# Altium integrated library NSC Legacy.IntLib: 687 symbols (part 12 of 17)
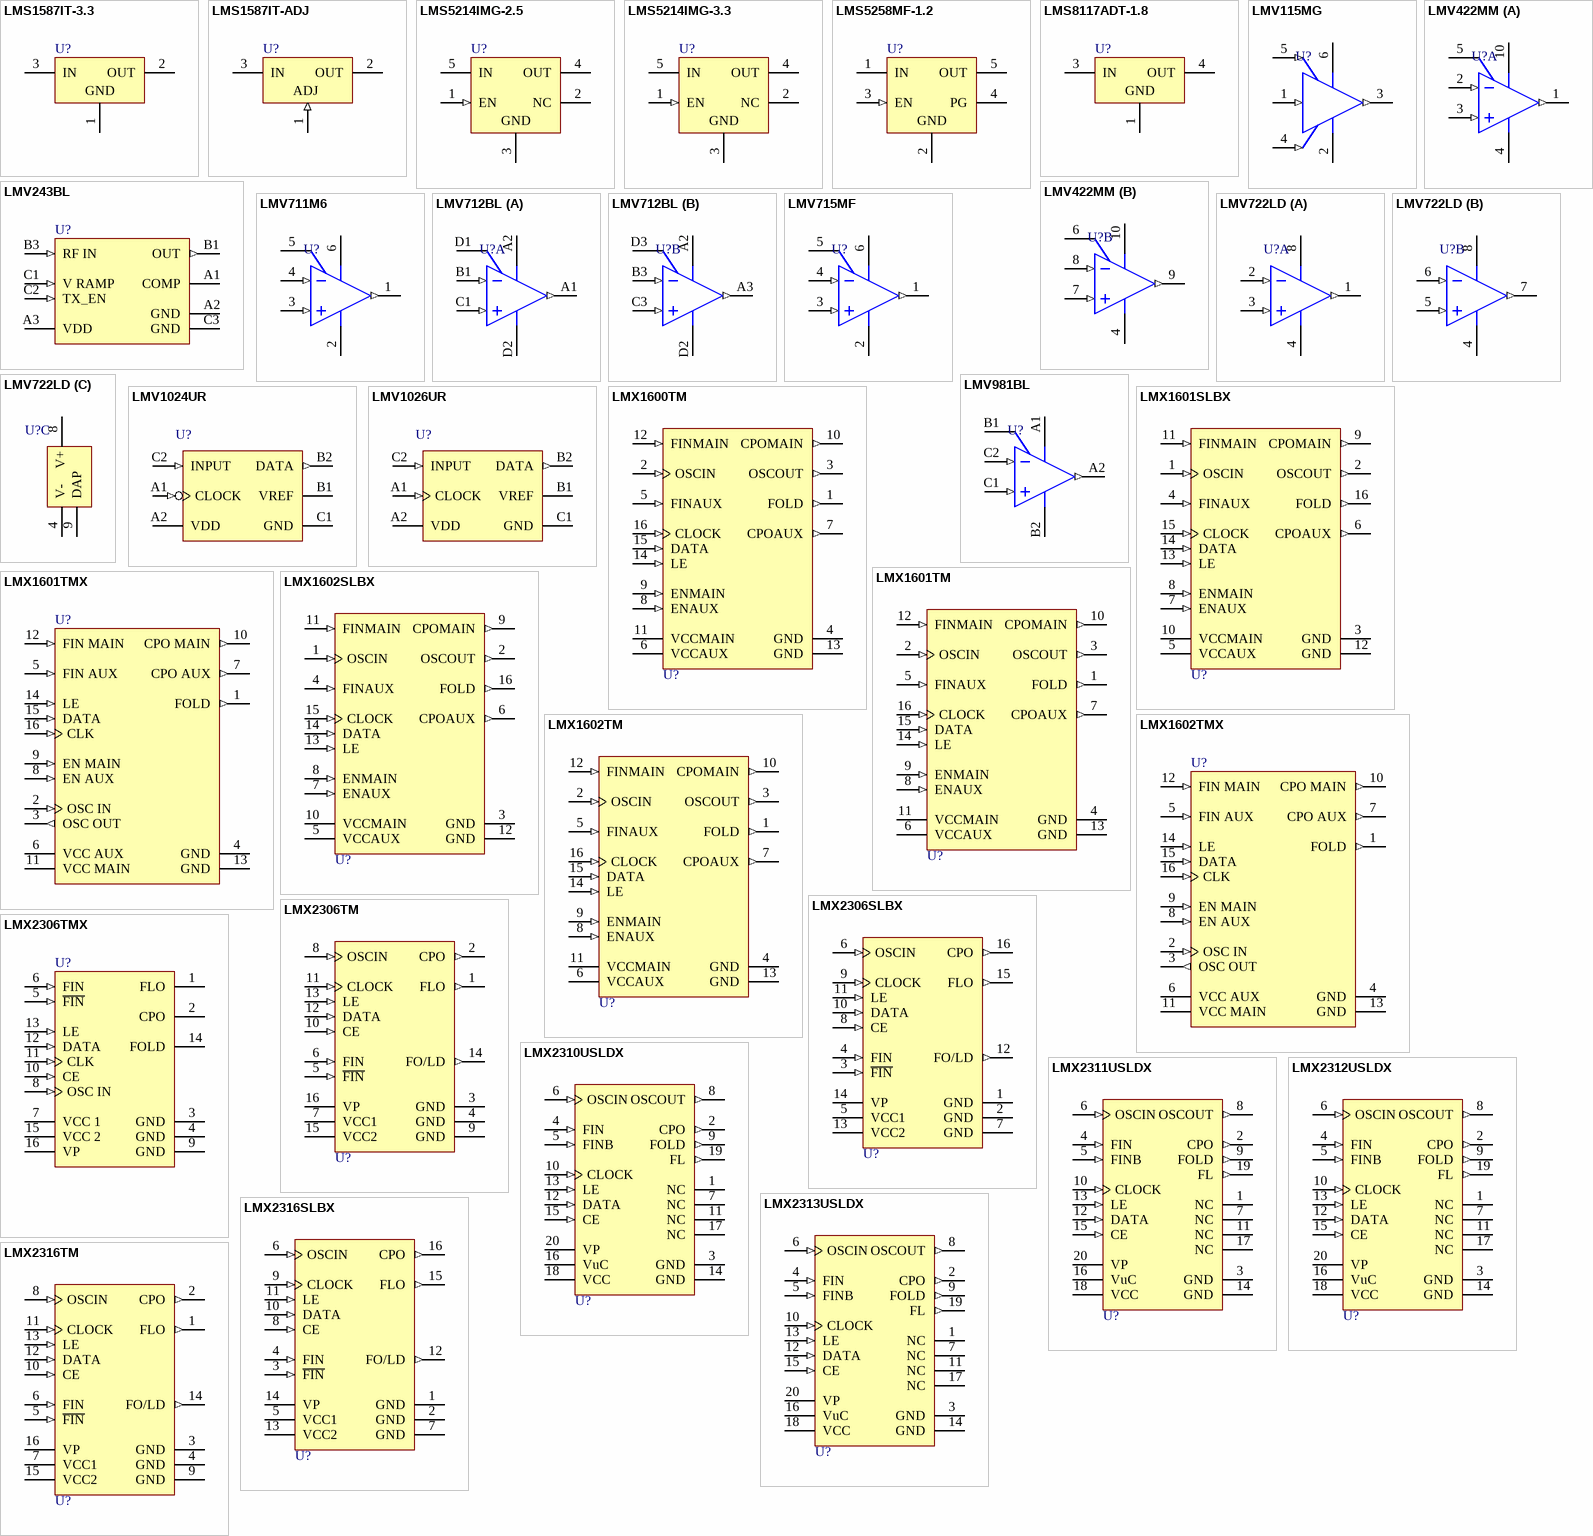
[diagram p35: symbols LMS1587IT-3.3 to LMX2316TM]

## LMX1602SLBX
designator U?
1.1 GHz/1.1 GHz PLLatinum Low Cost Dual Frequency Synthesizer, 16-pin CSP; PartNumber: LMX1602SLBX; Manufacturer: National Semiconductor; PackageTopMarking: NSXYTT*X1602*SLBDD; CompType: Interface IC; Published: 4-Dec-2008; DatasheetVersion: Jun-2005; PackageVersion: revB, Sep-1998; PackageReference: SLB16A; Publisher: Altium Limited; PackageDescription: CSP, Plastic, Laminated, 3.5 x 3.5 x 1.0mm Body, 16 Lead, 0.5mm Pitch; Supplier 1: Digi-Key; Supplier Part Number 1: LMX1602SLBX-ND; RoHS: O; PinCount: 16; Code_JEDEC: MO-208-CCE; ComponentLink1Description: LMX1602 Datasheet; ComponentLink1URL: http://www.national.com/ds/LM/LMX1602.pdf; ComponentLink2Description: LMX1602 Web Page; ComponentLink2URL: http://www.national.com/pf/LM/LMX1602.html; ComponentLink3Description: SLB16A Package Page; ComponentLink3URL: http://www.national.com/packaging/folders/slb16a.html
footprint SLB16A (PQFN, 16-Leads, Body 3.5x3.5mm, Pitch 0.5mm, NSC Recommended)
pins: 1 OSCIN (in), 2 OSCOUT (out), 3 GND (power), 4 FINAUX (in), 5 VCCAUX (power), 6 CPOAUX (out), 7 ENAUX (in), 8 ENMAIN (in), 9 CPOMAIN (out), 10 VCCMAIN (power), 11 FINMAIN (in), 12 GND (power), 13 LE (in), 14 DATA (in), 15 CLOCK (in), 16 FOLD (out)

## LMX1602TM
designator U?
1.1 GHz/1.1 GHz PLLatinum Low Cost Dual Frequency Synthesizer, 16-pin TSSOP; PartNumber: LMX1602TM; Manufacturer: National Semiconductor; PackageTopMarking: NSUZXYTT*LMX1602*TMDD; CompType: Interface IC; Published: 4-Dec-2008; DatasheetVersion: Jun-2005; PackageVersion: revD, Jun-2003; PackageReference: MTC16; Publisher: Altium Limited; PackageDescription: Molded TSSOP, Jedec, 5 x 4.4 x 0.9mm Body, 16 Lead, 0.65mm Pitch; RoHS: Y; PinCount: 16; Code_JEDEC: MO-153-AB; ComponentLink1Description: LMX1602 Datasheet; ComponentLink1URL: http://www.national.com/ds/LM/LMX1602.pdf; ComponentLink2Description: LMX1602 Web Page; ComponentLink2URL: http://www.national.com/pf/LM/LMX1602.html; ComponentLink3Description: MTC16 Package Page; ComponentLink3URL: http://www.national.com/packaging/folders/mtc16.html
footprint MTC16_N (TSOP, 16-Leads, Body 5x4.4mm, Pitch 0.65mm, IPC Medium Density)
footprint MTC16_L (TSOP, 16-Leads, Body 5x4.4mm, Pitch 0.65mm, IPC High Density)
footprint MTC16_M (TSOP, 16-Leads, Body 5x4.4mm, Pitch 0.65mm, IPC Low Density)
pins: 1 FOLD (out), 2 OSCIN (in), 3 OSCOUT (out), 4 GND (power), 5 FINAUX (in), 6 VCCAUX (power), 7 CPOAUX (out), 8 ENAUX (in), 9 ENMAIN (in), 10 CPOMAIN (out), 11 VCCMAIN (power), 12 FINMAIN (in), 13 GND (power), 14 LE (in), 15 DATA (in), 16 CLOCK (in)

## LMX1602TMX
designator U?
1.1 GHz/1.1 GHz PLLatinum Low Cost Dual Frequency Synthesizer, 16-pin TSSOP; PartNumber: LMX1602TMX; Manufacturer: National Semiconductor; PackageTopMarking: NSUZXYTT*LMX1602*TMDD; CompType: Analog IC; Published: 4-Dec-2008; DatasheetVersion: Jun-2005; PackageVersion: revD, Jun-2003; PackageReference: MTC16; Publisher: Altium Limited; PackageDescription: Molded TSSOP, Jedec, 5 x 4.4 x 0.9mm Body, 16 Lead, 0.65mm Pitch; PinCount: 16; Code_JEDEC: MO-153-AB; ComponentLink1Description: LMX1602 Datasheet; ComponentLink1URL: http://www.national.com/ds/LM/LMX1602.pdf; ComponentLink2Description: LMX1602 Web Page; ComponentLink2URL: http://www.national.com/pf/LM/LMX1602.html; ComponentLink3Description: MTC16 package page; ComponentLink3URL: http://www.national.com/packaging/folders/mtc16.html
footprint MTC16_N (TSOP, 16-Leads, Body 5x4.4mm, Pitch 0.65mm, IPC Medium Density)
footprint MTC16_L (TSOP, 16-Leads, Body 5x4.4mm, Pitch 0.65mm, IPC High Density)
footprint MTC16_M (TSOP, 16-Leads, Body 5x4.4mm, Pitch 0.65mm, IPC Low Density)
pins: 1 FOLD (out), 2 OSC IN (in), 3 OSC OUT (out), 4 GND (power), 5 FIN AUX (in), 6 VCC AUX (power), 7 CPO AUX (out), 8 EN AUX (in), 9 EN MAIN (in), 10 CPO MAIN (out), 11 VCC MAIN (power), 12 FIN MAIN (in), 13 GND (power), 14 LE (in), 15 DATA (in), 16 CLK (in)

## LMX2306SLBX
designator U?
550 MHz PLLatinum Low Power Frequency Synthesizer for RF Personal Communications, 16-pin CSP; PartNumber: LMX2306SLBX; Manufacturer: National Semiconductor; PackageTopMarking: NSXYTT*X2306*SLBDD; PowerWise: N; CompType: Interface IC; Published: 4-Dec-2008; DatasheetVersion: Mar-2004; PackageVersion: revB, Sep-1998; PackageReference: SLB16A; Publisher: Altium Limited; PackageDescription: CSP, Plastic, Laminated, 3.5 x 3.5 x 1.0mm Body, 16 Lead, 0.5mm Pitch; Supplier 1: Farnell; Supplier Part Number 1: 4799975; RoHS: O; PinCount: 16; Code_JEDEC: MO-208-CCE; ComponentLink1Description: LMX2306 Datasheet; ComponentLink1URL: http://www.national.com/ds/LM/LMX2306.pdf; ComponentLink2Description: LMX2306 Web Page; ComponentLink2URL: http://www.national.com/pf/LM/LMX2306.html; ComponentLink3Description: SLB16A Package Page; ComponentLink3URL: http://www.national.com/packaging/folders/slb16a.html
footprint SLB16A (PQFN, 16-Leads, Body 3.5x3.5mm, Pitch 0.5mm, NSC Recommended)
pins: 1 GND (power), 2 GND (power), 3 ~{FIN} (in), 4 FIN (in), 5 VCC1 (power), 6 OSCIN (in), 7 GND (power), 8 CE (in), 9 CLOCK (in), 10 DATA (in), 11 LE (in), 12 FO/LD (out), 13 VCC2 (power), 14 VP (power), 15 FLO (out), 16 CPO (out)

## LMX2306TM
designator U?
550 MHz PLLatinum Low Power Frequency Synthesizer for RF Personal Communications, 16-pin TSSOP; PartNumber: LMX2306TM; Manufacturer: National Semiconductor; PackageTopMarking: NSUZXYTT*LMX2306*TMDD; PowerWise: N; CompType: Interface IC; Published: 4-Dec-2008; DatasheetVersion: Mar-2004; PackageVersion: revD, Jun-2003; PackageReference: MTC16; Publisher: Altium Limited; PackageDescription: Molded TSSOP, Jedec, 5 x 4.4 x 0.9mm Body, 16 Lead, 0.65mm Pitch; Supplier 1: Farnell; Supplier Part Number 1: 9779140; RoHS: O; PinCount: 16; Code_JEDEC: MO-153-AB; ComponentLink1Description: LMX2306 Datasheet; ComponentLink1URL: http://www.national.com/ds/LM/LMX2306.pdf; ComponentLink2Description: LMX2306 Web Page; ComponentLink2URL: http://www.national.com/pf/LM/LMX2306.html; ComponentLink3Description: MTC16 Package Page; ComponentLink3URL: http://www.national.com/packaging/folders/mtc16.html
footprint MTC16_N (TSOP, 16-Leads, Body 5x4.4mm, Pitch 0.65mm, IPC Medium Density)
footprint MTC16_L (TSOP, 16-Leads, Body 5x4.4mm, Pitch 0.65mm, IPC High Density)
footprint MTC16_M (TSOP, 16-Leads, Body 5x4.4mm, Pitch 0.65mm, IPC Low Density)
pins: 1 FLO (out), 2 CPO (out), 3 GND (power), 4 GND (power), 5 ~{FIN} (in), 6 FIN (in), 7 VCC1 (power), 8 OSCIN (in), 9 GND (power), 10 CE (in), 11 CLOCK (in), 12 DATA (in), 13 LE (in), 14 FO/LD (out), 15 VCC2 (power), 16 VP (power)

## LMX2306TMX
designator U?
550 MHz PLLatinum Low Power Frequency Synthesizer for RF Personal Communications, 16-pin TSSOP; PartNumber: LMX2306TMX; Manufacturer: National Semiconductor; PackageTopMarking: NSUZXYTT*LMX2306*TMDD; CompType: Analog IC; Published: 4-Dec-2008; DatasheetVersion: Mar-2004; PackageVersion: revD, Jun-2003; PackageReference: MTC16; Publisher: Altium Limited; PackageDescription: Molded TSSOP, Jedec, 5 x 4.4 x 0.9mm Body, 16 Lead, 0.65mm Pitch; PinCount: 16; Code_JEDEC: MO-153-AB; ComponentLink1Description: LMX2306 Datasheet; ComponentLink1URL: http://www.national.com/ds/LM/LMX2306.pdf; ComponentLink2Description: LMX2306 Web Page; ComponentLink2URL: http://www.national.com/pf/LM/LMX2306.html; ComponentLink3Description: MTC16 package page; ComponentLink3URL: http://www.national.com/packaging/folders/mtc16.html
footprint MTC16_N (TSOP, 16-Leads, Body 5x4.4mm, Pitch 0.65mm, IPC Medium Density)
footprint MTC16_L (TSOP, 16-Leads, Body 5x4.4mm, Pitch 0.65mm, IPC High Density)
footprint MTC16_M (TSOP, 16-Leads, Body 5x4.4mm, Pitch 0.65mm, IPC Low Density)
pins: 1 FLO (hiz), 2 CPO (hiz), 3 GND (power), 4 GND (power), 5 ~{FIN} (in), 6 FIN (in), 7 VCC 1 (power), 8 OSC IN (in), 9 GND (power), 10 CE (in), 11 CLK (in), 12 DATA (in), 13 LE (in), 14 FOLD (hiz), 15 VCC 2 (power), 16 VP (power)

## LMX2310USLDX
designator U?
2.5 GHz PLLatinum Ultra Low Power Frequency Synthesizer for RF Personal Communications, 20-pin CSP; PartNumber: LMX2310USLDX; Manufacturer: National Semiconductor; PackageTopMarking: NSXYTT*X2310U*SLDDD; PowerWise: N; CompType: Interface IC; Published: 4-Dec-2008; DatasheetVersion: Dec-2003; PackageVersion: revA, Jun-2001; PackageReference: SLD20A; Publisher: Altium Limited; PackageDescription: Thin CSP, Plastic, Laminated, 3.5 x 3.5 x 0.8mm Body, 20 Lead, .5mm Pitch; RoHS: Y; PinCount: 20; Code_JEDEC: MO-208-CCEA-1; ComponentLink1Description: LMX2310U Datasheet; ComponentLink1URL: http://www.national.com/ds/LM/LMX2310U.pdf; ComponentLink2Description: LMX2310U Web Page; ComponentLink2URL: http://www.national.com/pf/LM/LMX2310U.html; ComponentLink3Description: SLD20A Package Page; ComponentLink3URL: http://www.national.com/packaging/folders/sld20a.html
footprint SLD20A (PQFN, 20-Leads, Body 3.5x3.5mm, Pitch 0.5mm, NSC Recommended)
pins: 1 NC, 2 CPO (out), 3 GND (power), 4 FIN (in), 5 FINB (in), 6 OSCIN (in), 7 NC, 8 OSCOUT (out), 9 FOLD (out), 10 CLOCK (in), 11 NC, 12 DATA (in), 13 LE (in), 14 GND (power), 15 CE (in), 16 VuC (power), 17 NC, 18 VCC (power), 19 FL (out), 20 VP (power)

## LMX2311USLDX
designator U?
2.0 GHz PLLatinum Ultra Low Power Frequency Synthesizer for RF Personal Communications, 20-pin CSP; PartNumber: LMX2311USLDX; Manufacturer: National Semiconductor; PackageTopMarking: NSXYTT*X2311U*SLDDD; PowerWise: N; CompType: Interface IC; Published: 4-Dec-2008; DatasheetVersion: Dec-2003; PackageVersion: revA, Jun-2001; PackageReference: SLD20A; Publisher: Altium Limited; PackageDescription: Thin CSP, Plastic, Laminated, 3.5 x 3.5 x 0.8mm Body, 20 Lead, .5mm Pitch; RoHS: O; PinCount: 20; Code_JEDEC: MO-208-CCEA-1; ComponentLink1Description: LMX2311U Datasheet; ComponentLink1URL: http://www.national.com/ds/LM/LMX2311U.pdf; ComponentLink2Description: LMX2311U Web Page; ComponentLink2URL: http://www.national.com/pf/LM/LMX2311U.html; ComponentLink3Description: SLD20A Package Page; ComponentLink3URL: http://www.national.com/packaging/folders/sld20a.html
footprint SLD20A (PQFN, 20-Leads, Body 3.5x3.5mm, Pitch 0.5mm, NSC Recommended)
pins: 1 NC, 2 CPO (out), 3 GND (power), 4 FIN (in), 5 FINB (in), 6 OSCIN (in), 7 NC, 8 OSCOUT (out), 9 FOLD (out), 10 CLOCK (in), 11 NC, 12 DATA (in), 13 LE (in), 14 GND (power), 15 CE (in), 16 VuC (power), 17 NC, 18 VCC (power), 19 FL (out), 20 VP (power)

## LMX2312USLDX
designator U?
1.2 GHz PLLatinum Ultra Low Power Frequency Synthesizer for RF Personal Communications, 20-pin CSP; PartNumber: LMX2312USLDX; Manufacturer: National Semiconductor; PackageTopMarking: NSXYTT*X2312U*SLDDD; PowerWise: N; CompType: Interface IC; Published: 4-Dec-2008; DatasheetVersion: Dec-2003; PackageVersion: revA, Jun-2001; PackageReference: SLD20A; Publisher: Altium Limited; PackageDescription: Thin CSP, Plastic, Laminated, 3.5 x 3.5 x 0.8mm Body, 20 Lead, .5mm Pitch; RoHS: O; PinCount: 20; Code_JEDEC: MO-208-CCEA-1; ComponentLink1Description: LMX2312U Datasheet; ComponentLink1URL: http://www.national.com/ds/LM/LMX2312U.pdf; ComponentLink2Description: LMX2312U Web Page; ComponentLink2URL: http://www.national.com/pf/LM/LMX2312U.html; ComponentLink3Description: SLD20A Package Page; ComponentLink3URL: http://www.national.com/packaging/folders/sld20a.html
footprint SLD20A (PQFN, 20-Leads, Body 3.5x3.5mm, Pitch 0.5mm, NSC Recommended)
pins: 1 NC, 2 CPO (out), 3 GND (power), 4 FIN (in), 5 FINB (in), 6 OSCIN (in), 7 NC, 8 OSCOUT (out), 9 FOLD (out), 10 CLOCK (in), 11 NC, 12 DATA (in), 13 LE (in), 14 GND (power), 15 CE (in), 16 VuC (power), 17 NC, 18 VCC (power), 19 FL (out), 20 VP (power)

## LMX2313USLDX
designator U?
600 MHz PLLatinum Ultra Low Power Frequency Synthesizer for RF Personal Communications, 20-pin CSP; PartNumber: LMX2313USLDX; Manufacturer: National Semiconductor; PackageTopMarking: NSXYTT*X2313U*SLDDD; PowerWise: N; CompType: Interface IC; Published: 4-Dec-2008; DatasheetVersion: Dec-2003; PackageVersion: revA, Jun-2001; PackageReference: SLD20A; Publisher: Altium Limited; PackageDescription: Thin CSP, Plastic, Laminated, 3.5 x 3.5 x 0.8mm Body, 20 Lead, .5mm Pitch; RoHS: O; PinCount: 20; Code_JEDEC: MO-208-CCEA-1; ComponentLink1Description: LMX2313U Datasheet; ComponentLink1URL: http://www.national.com/ds/LM/LMX2313U.pdf; ComponentLink2Description: LMX2313U Web Page; ComponentLink2URL: http://www.national.com/pf/LM/LMX2313U.html; ComponentLink3Description: SLD20A Package Page; ComponentLink3URL: http://www.national.com/packaging/folders/sld20a.html
footprint SLD20A (PQFN, 20-Leads, Body 3.5x3.5mm, Pitch 0.5mm, NSC Recommended)
pins: 1 NC, 2 CPO (out), 3 GND (power), 4 FIN (in), 5 FINB (in), 6 OSCIN (in), 7 NC, 8 OSCOUT (out), 9 FOLD (out), 10 CLOCK (in), 11 NC, 12 DATA (in), 13 LE (in), 14 GND (power), 15 CE (in), 16 VuC (power), 17 NC, 18 VCC (power), 19 FL (out), 20 VP (power)

## LMX2316SLBX
designator U?
1.2 GHz PLLatinum Low Power Frequency Synthesizer for RF Personal Communications, 16-pin CSP; PartNumber: LMX2316SLBX; Manufacturer: National Semiconductor; PackageTopMarking: NSXYTT*X2316*SLBDD; CompType: Interface IC; Published: 4-Dec-2008; DatasheetVersion: Mar-2004; PackageVersion: revB, Sep-1998; PackageReference: SLB16A; Publisher: Altium Limited; PackageDescription: CSP, Plastic, Laminated, 3.5 x 3.5 x 1.0mm Body, 16 Lead, 0.5mm Pitch; RoHS: O; PinCount: 16; Code_JEDEC: MO-208-CCE; ComponentLink1Description: LMX2316 Datasheet; ComponentLink1URL: http://www.national.com/ds/LM/LMX2316.pdf; ComponentLink2Description: LMX2316 Web Page; ComponentLink2URL: http://www.national.com/pf/LM/LMX2316.html; ComponentLink3Description: SLB16A Package Page; ComponentLink3URL: http://www.national.com/packaging/folders/slb16a.html
footprint SLB16A (PQFN, 16-Leads, Body 3.5x3.5mm, Pitch 0.5mm, NSC Recommended)
pins: 1 GND (power), 2 GND (power), 3 ~{FIN} (in), 4 FIN (in), 5 VCC1 (power), 6 OSCIN (in), 7 GND (power), 8 CE (in), 9 CLOCK (in), 10 DATA (in), 11 LE (in), 12 FO/LD (out), 13 VCC2 (power), 14 VP (power), 15 FLO (out), 16 CPO (out)

## LMX2316TM
designator U?
1.2 GHz PLLatinum Low Power Frequency Synthesizer for RF Personal Communications, 16-pin TSSOP; PartNumber: LMX2316TM; Manufacturer: National Semiconductor; PackageTopMarking: NSUZXYTT*LMX2316*TMDD; PowerWise: N; CompType: Interface IC; Published: 4-Dec-2008; DatasheetVersion: Mar-2004; PackageVersion: revD, Jun-2003; PackageReference: MTC16; Publisher: Altium Limited; PackageDescription: Molded TSSOP, Jedec, 5 x 4.4 x 0.9mm Body, 16 Lead, 0.65mm Pitch; Supplier 1: Farnell; Supplier Part Number 1: 9779159; RoHS: O; PinCount: 16; Code_JEDEC: MO-153-AB; ComponentLink1Description: LMX2316 Datasheet; ComponentLink1URL: http://www.national.com/ds/LM/LMX2316.pdf; ComponentLink2Description: LMX2316 Web Page; ComponentLink2URL: http://www.national.com/pf/LM/LMX2316.html; ComponentLink3Description: MTC16 Package Page; ComponentLink3URL: http://www.national.com/packaging/folders/mtc16.html
footprint MTC16_N (TSOP, 16-Leads, Body 5x4.4mm, Pitch 0.65mm, IPC Medium Density)
footprint MTC16_L (TSOP, 16-Leads, Body 5x4.4mm, Pitch 0.65mm, IPC High Density)
footprint MTC16_M (TSOP, 16-Leads, Body 5x4.4mm, Pitch 0.65mm, IPC Low Density)
pins: 1 FLO (out), 2 CPO (out), 3 GND (power), 4 GND (power), 5 ~{FIN} (in), 6 FIN (in), 7 VCC1 (power), 8 OSCIN (in), 9 GND (power), 10 CE (in), 11 CLOCK (in), 12 DATA (in), 13 LE (in), 14 FO/LD (out), 15 VCC2 (power), 16 VP (power)

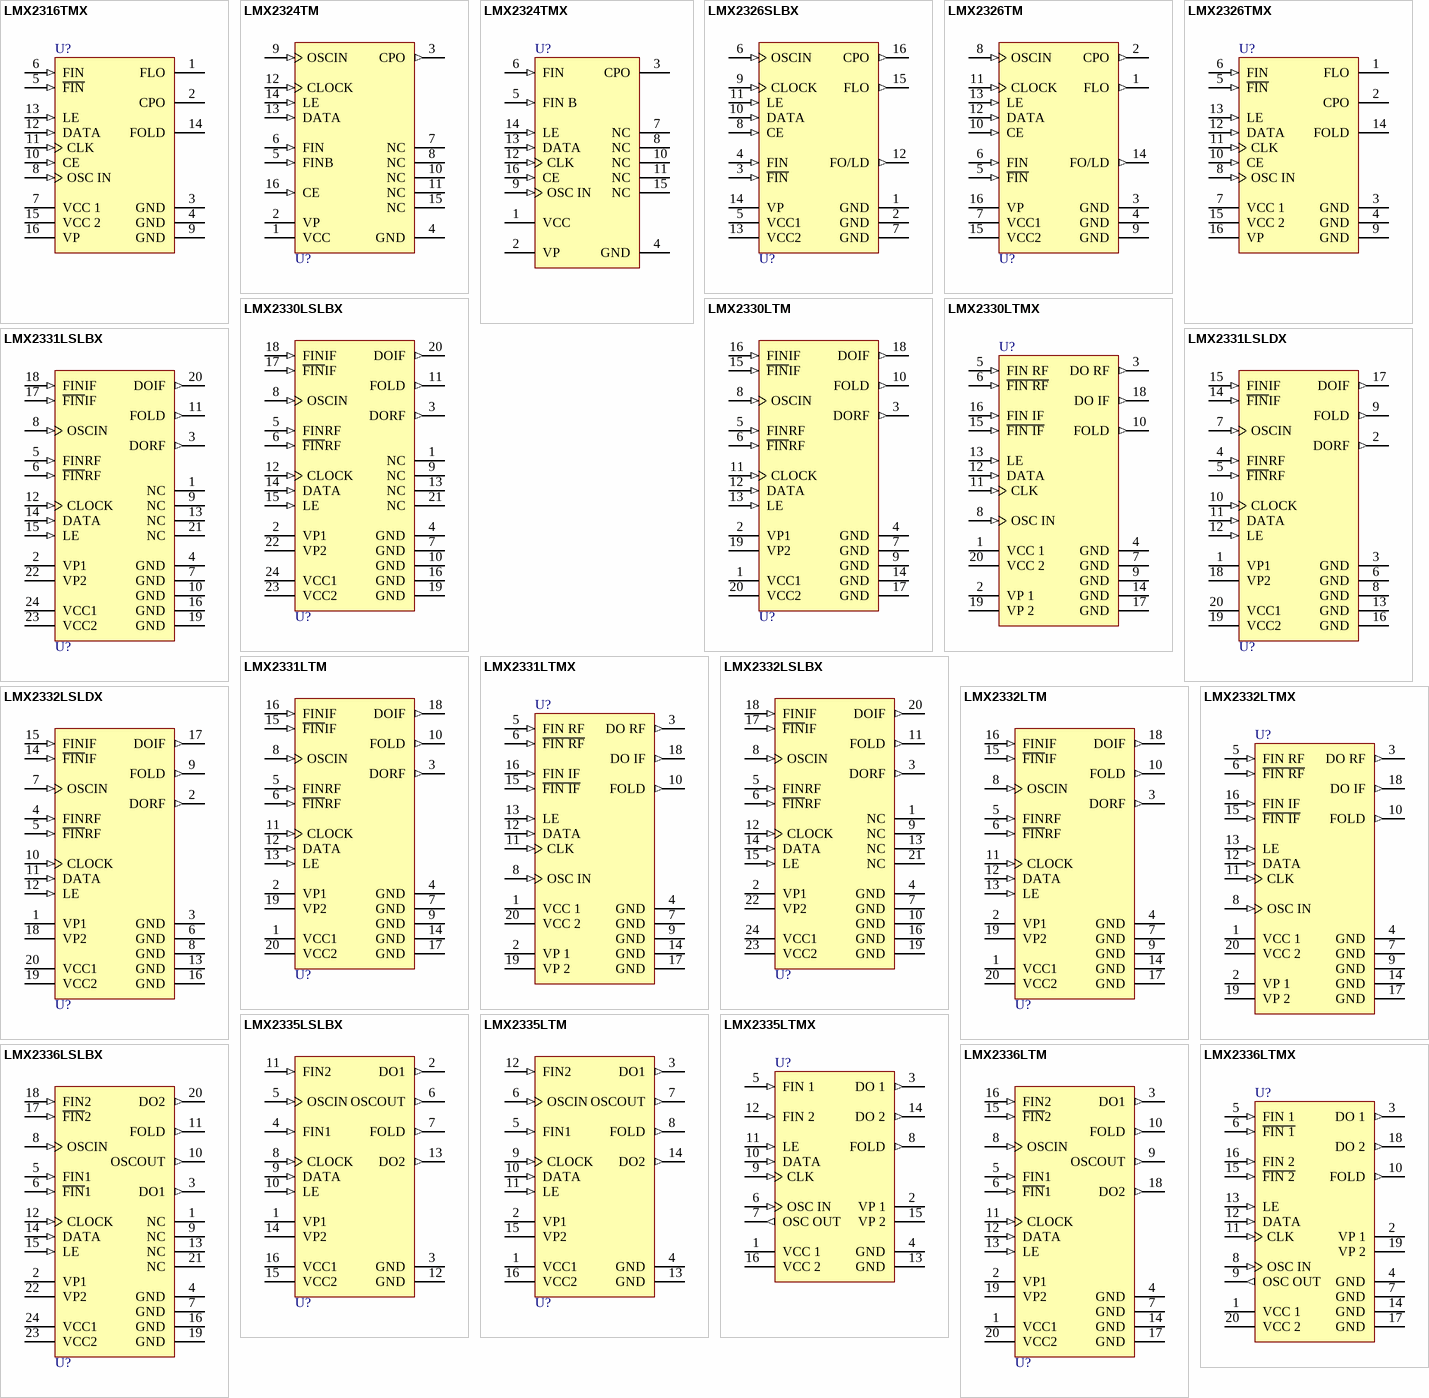
[diagram p18: symbols LMX2316TMX to LMX2336LTMX]

## LMX2316TMX
designator U?
1.2 GHz PLLatinum Low Power Frequency Synthesizer for RF Personal Communications, 16-pin TSSOP; PartNumber: LMX2316TMX; Manufacturer: National Semiconductor; PackageTopMarking: NSUZXYTT*LMX2316*TMDD; CompType: Analog IC; Published: 4-Dec-2008; DatasheetVersion: Mar-2004; PackageVersion: revD, Jun-2003; PackageReference: MTC16; Publisher: Altium Limited; PackageDescription: Molded TSSOP, Jedec, 5 x 4.4 x 0.9mm Body, 16 Lead, 0.65mm Pitch; PinCount: 16; Code_JEDEC: MO-153-AB; ComponentLink1Description: LMX2316 Datasheet; ComponentLink1URL: http://www.national.com/ds/LM/LMX2316.pdf; ComponentLink2Description: LMX2316 Web Page; ComponentLink2URL: http://www.national.com/pf/LM/LMX2316.html; ComponentLink3Description: MTC16 package page; ComponentLink3URL: http://www.national.com/packaging/folders/mtc16.html
footprint MTC16_N (TSOP, 16-Leads, Body 5x4.4mm, Pitch 0.65mm, IPC Medium Density)
footprint MTC16_L (TSOP, 16-Leads, Body 5x4.4mm, Pitch 0.65mm, IPC High Density)
footprint MTC16_M (TSOP, 16-Leads, Body 5x4.4mm, Pitch 0.65mm, IPC Low Density)
pins: 1 FLO (hiz), 2 CPO (hiz), 3 GND (power), 4 GND (power), 5 ~{FIN} (in), 6 FIN (in), 7 VCC 1 (power), 8 OSC IN (in), 9 GND (power), 10 CE (in), 11 CLK (in), 12 DATA (in), 13 LE (in), 14 FOLD (hiz), 15 VCC 2 (power), 16 VP (power)

## LMX2324TM
designator U?
PLLatinum 2.0 GHz Frequency Synthesizer for RF Personal Communications, 16-pin TSSOP; PartNumber: LMX2324TM; Manufacturer: National Semiconductor; PackageTopMarking: NSUZXYTT*LMX2324*TMDD; CompType: Interface IC; Published: 4-Dec-2008; DatasheetVersion: Mar-2001; PackageVersion: revD, Jun-2003; PackageReference: MTC16; Publisher: Altium Limited; PackageDescription: Molded TSSOP, Jedec, 5 x 4.4 x 0.9mm Body, 16 Lead, 0.65mm Pitch; Supplier 1: Digi-Key; Supplier Part Number 1: LMX2324TM-ND; RoHS: Y; PinCount: 16; Code_JEDEC: MO-153-AB; ComponentLink1Description: LMX2324 Datasheet; ComponentLink1URL: http://www.national.com/ds/LM/LMX2324.pdf; ComponentLink2Description: LMX2324 Web Page; ComponentLink2URL: http://www.national.com/pf/LM/LMX2324.html; ComponentLink3Description: MTC16 Package Page; ComponentLink3URL: http://www.national.com/packaging/folders/mtc16.html
footprint MTC16_N (TSOP, 16-Leads, Body 5x4.4mm, Pitch 0.65mm, IPC Medium Density)
footprint MTC16_L (TSOP, 16-Leads, Body 5x4.4mm, Pitch 0.65mm, IPC High Density)
footprint MTC16_M (TSOP, 16-Leads, Body 5x4.4mm, Pitch 0.65mm, IPC Low Density)
pins: 1 VCC (power), 2 VP (power), 3 CPO (out), 4 GND (power), 5 FINB (in), 6 FIN (in), 7 NC, 8 NC, 9 OSCIN (in), 10 NC, 11 NC, 12 CLOCK (in), 13 DATA (in), 14 LE (in), 15 NC, 16 CE (in)

## LMX2324TMX
designator U?
PLLatinum 2.0 GHz Frequency Synthesizer for RF Personal Communications, 16-pin TSSOP; PartNumber: LMX2324TMX; Manufacturer: National Semiconductor; PackageTopMarking: NSUZXYTT*LMX2324*TMDD; CompType: Analog IC; Published: 4-Dec-2008; DatasheetVersion: Mar-2001; PackageVersion: revD, Jun-2003; PackageReference: MTC16; Publisher: Altium Limited; PackageDescription: Molded TSSOP, Jedec, 5 x 4.4 x 0.9mm Body, 16 Lead, 0.65mm Pitch; PinCount: 16; Code_JEDEC: MO-153-AB; ComponentLink1Description: LMX2324 Datasheet; ComponentLink1URL: http://www.national.com/ds/LM/LMX2324.pdf; ComponentLink2Description: LMX2324 Web Page; ComponentLink2URL: http://www.national.com/pf/LM/LMX2324.html; ComponentLink3Description: MTC16 package page; ComponentLink3URL: http://www.national.com/packaging/folders/mtc16.html
footprint MTC16_N (TSOP, 16-Leads, Body 5x4.4mm, Pitch 0.65mm, IPC Medium Density)
footprint MTC16_L (TSOP, 16-Leads, Body 5x4.4mm, Pitch 0.65mm, IPC High Density)
footprint MTC16_M (TSOP, 16-Leads, Body 5x4.4mm, Pitch 0.65mm, IPC Low Density)
pins: 1 VCC (power), 2 VP (power), 3 CPO (hiz), 4 GND (power), 5 FIN B (in), 6 FIN (in), 7 NC, 8 NC, 9 OSC IN (in), 10 NC, 11 NC, 12 CLK (in), 13 DATA (in), 14 LE (in), 15 NC, 16 CE (in)

## LMX2326SLBX
designator U?
2.8 GHz PLLatinum Low Power Frequency Synthesizer for RF Personal Communications, 16-pin CSP; PartNumber: LMX2326SLBX; Manufacturer: National Semiconductor; PackageTopMarking: NSXYTT*X2326*SLBDD; PowerWise: N; CompType: Interface IC; Published: 4-Dec-2008; DatasheetVersion: Mar-2004; PackageVersion: revB, Sep-1998; PackageReference: SLB16A; Publisher: Altium Limited; PackageDescription: CSP, Plastic, Laminated, 3.5 x 3.5 x 1.0mm Body, 16 Lead, 0.5mm Pitch; RoHS: O; PinCount: 16; Code_JEDEC: MO-208-CCE; ComponentLink1Description: LMX2326 Datasheet; ComponentLink1URL: http://www.national.com/ds/LM/LMX2326.pdf; ComponentLink2Description: LMX2326 Web Page; ComponentLink2URL: http://www.national.com/pf/LM/LMX2326.html; ComponentLink3Description: SLB16A Package Page; ComponentLink3URL: http://www.national.com/packaging/folders/slb16a.html
footprint SLB16A (PQFN, 16-Leads, Body 3.5x3.5mm, Pitch 0.5mm, NSC Recommended)
pins: 1 GND (power), 2 GND (power), 3 ~{FIN} (in), 4 FIN (in), 5 VCC1 (power), 6 OSCIN (in), 7 GND (power), 8 CE (in), 9 CLOCK (in), 10 DATA (in), 11 LE (in), 12 FO/LD (out), 13 VCC2 (power), 14 VP (power), 15 FLO (out), 16 CPO (out)

## LMX2326TM
designator U?
2.8 GHz PLLatinum Low Power Frequency Synthesizer for RF Personal Communications, 16-pin TSSOP; PartNumber: LMX2326TM; Manufacturer: National Semiconductor; PackageTopMarking: NSUZXYTT*LMX2326*TMDD; PowerWise: N; CompType: Interface IC; Published: 4-Dec-2008; DatasheetVersion: Mar-2004; PackageVersion: revD, Jun-2003; PackageReference: MTC16; Publisher: Altium Limited; PackageDescription: Molded TSSOP, Jedec, 5 x 4.4 x 0.9mm Body, 16 Lead, 0.65mm Pitch; Supplier 1: Farnell; Supplier Part Number 1: 9779167; RoHS: O; PinCount: 16; Code_JEDEC: MO-153-AB; ComponentLink1Description: LMX2326 Datasheet; ComponentLink1URL: http://www.national.com/ds/LM/LMX2326.pdf; ComponentLink2Description: LMX2326 Web Page; ComponentLink2URL: http://www.national.com/pf/LM/LMX2326.html; ComponentLink3Description: MTC16 Package Page; ComponentLink3URL: http://www.national.com/packaging/folders/mtc16.html
footprint MTC16_N (TSOP, 16-Leads, Body 5x4.4mm, Pitch 0.65mm, IPC Medium Density)
footprint MTC16_L (TSOP, 16-Leads, Body 5x4.4mm, Pitch 0.65mm, IPC High Density)
footprint MTC16_M (TSOP, 16-Leads, Body 5x4.4mm, Pitch 0.65mm, IPC Low Density)
pins: 1 FLO (out), 2 CPO (out), 3 GND (power), 4 GND (power), 5 ~{FIN} (in), 6 FIN (in), 7 VCC1 (power), 8 OSCIN (in), 9 GND (power), 10 CE (in), 11 CLOCK (in), 12 DATA (in), 13 LE (in), 14 FO/LD (out), 15 VCC2 (power), 16 VP (power)

## LMX2326TMX
designator U?
2.8 GHz PLLatinum Low Power Frequency Synthesizer for RF Personal Communications, 16-pin TSSOP; PartNumber: LMX2326TMX; Manufacturer: National Semiconductor; PackageTopMarking: NSUZXYTT*LMX2326*TMDD; CompType: Analog IC; Published: 4-Dec-2008; DatasheetVersion: Mar-2004; PackageVersion: revD, Jun-2003; PackageReference: MTC16; Publisher: Altium Limited; PackageDescription: Molded TSSOP, Jedec, 5 x 4.4 x 0.9mm Body, 16 Lead, 0.65mm Pitch; PinCount: 16; Code_JEDEC: MO-153-AB; ComponentLink1Description: LMX2326 Datasheet; ComponentLink1URL: http://www.national.com/ds/LM/LMX2326.pdf; ComponentLink2Description: LMX2326 Web Page; ComponentLink2URL: http://www.national.com/pf/LM/LMX2326.html; ComponentLink3Description: MTC16 package page; ComponentLink3URL: http://www.national.com/packaging/folders/mtc16.html
footprint MTC16_N (TSOP, 16-Leads, Body 5x4.4mm, Pitch 0.65mm, IPC Medium Density)
footprint MTC16_L (TSOP, 16-Leads, Body 5x4.4mm, Pitch 0.65mm, IPC High Density)
footprint MTC16_M (TSOP, 16-Leads, Body 5x4.4mm, Pitch 0.65mm, IPC Low Density)
pins: 1 FLO (hiz), 2 CPO (hiz), 3 GND (power), 4 GND (power), 5 ~{FIN} (in), 6 FIN (in), 7 VCC 1 (power), 8 OSC IN (in), 9 GND (power), 10 CE (in), 11 CLK (in), 12 DATA (in), 13 LE (in), 14 FOLD (hiz), 15 VCC 2 (power), 16 VP (power)

## LMX2330LSLBX
designator U?
2.5 GHz/510 MHz PLLatinum Low Power Dual Frequency Synthesizer for RF Personal Communications, 24-pin CSP; PartNumber: LMX2330LSLBX; Manufacturer: National Semiconductor; PackageTopMarking: NSUZXYTT*LMX2330*LSLBDD; PowerWise: N; CompType: Interface IC; Published: 4-Dec-2008; DatasheetVersion: Oct-2001; PackageVersion: revC, Oct-1998; PackageReference: SLB24A; Publisher: Altium Limited; PackageDescription: CSP, Plastic, Laminated, 3.5 x 4.5 x 1.0mm Body, 24 Lead, 0.5mm Pitch; RoHS: O; PinCount: 24; ComponentLink1Description: LMX2330L Datasheet; ComponentLink1URL: http://www.national.com/ds/LM/LMX2330L.pdf; ComponentLink2Description: LMX2330L Web Page; ComponentLink2URL: http://www.national.com/pf/LM/LMX2330L.html; ComponentLink3Description: SLB24A Package Page; ComponentLink3URL: http://www.national.com/packaging/folders/slb24a.html
footprint SLB24A (PQFN, 24-Leads (9x3 pads), Body 3.5x4.5mm, Pitch 0.5mm, NSC Recommended)
pins: 1 NC, 2 VP1 (power), 3 DORF (out), 4 GND (power), 5 FINRF (in), 6 ~{FIN}RF (in), 7 GND (power), 8 OSCIN (in), 9 NC, 10 GND (power), 11 FOLD (out), 12 CLOCK (in), 13 NC, 14 DATA (in), 15 LE (in), 16 GND (power), 17 ~{FIN}IF (in), 18 FINIF (in), 19 GND (power), 20 DOIF (out), 21 NC, 22 VP2 (power), 23 VCC2 (power), 24 VCC1 (power)

## LMX2330LTM
designator U?
2.5 GHz/510 MHz PLLatinum Low Power Dual Frequency Synthesizer for RF Personal Communications, 20-pin TSSOP; PartNumber: LMX2330LTM; Manufacturer: National Semiconductor; PackageTopMarking: NSUZXYTT*LMX2330*LTMDD; PowerWise: N; CompType: Interface IC; Published: 4-Dec-2008; DatasheetVersion: Oct-2001; PackageVersion: revE, Mar-2003; PackageReference: MTC20; Publisher: Altium Limited; PackageDescription: Molded TSSOP, Jedec, 6.5 x 4.4 x 0.9mm Body, 20 Lead, 0.65mm Pitch; RoHS: Y; PinCount: 20; Code_JEDEC: MO-153-AC; ComponentLink1Description: LMX2330L Datasheet; ComponentLink1URL: http://www.national.com/ds/LM/LMX2330L.pdf; ComponentLink2Description: LMX2330L Web Page; ComponentLink2URL: http://www.national.com/pf/LM/LMX2330L.html; ComponentLink3Description: MTC20 Package Page; ComponentLink3URL: http://www.national.com/packaging/folders/mtc20.html
footprint MTC20_N (TSOP, 20-Leads, Body 6.5x4.4mm, Pitch 0.65mm, IPC Medium Density)
footprint MTC20_L (TSOP, 20-Leads, Body 6.5x4.4mm, Pitch 0.65mm, IPC High Density)
footprint MTC20_M (TSOP, 20-Leads, Body 6.5x4.4mm, Pitch 0.65mm, IPC Low Density)
pins: 1 VCC1 (power), 2 VP1 (power), 3 DORF (out), 4 GND (power), 5 FINRF (in), 6 ~{FIN}RF (in), 7 GND (power), 8 OSCIN (in), 9 GND (power), 10 FOLD (out), 11 CLOCK (in), 12 DATA (in), 13 LE (in), 14 GND (power), 15 ~{FIN}IF (in), 16 FINIF (in), 17 GND (power), 18 DOIF (out), 19 VP2 (power), 20 VCC2 (power)

## LMX2330LTMX
designator U?
2.5 GHz/510 MHz PLLatinum Low Power Dual Frequency Synthesizer for RF Personal Communications, 20-pin TSSOP; PartNumber: LMX2330LTMX; Manufacturer: National Semiconductor; PackageTopMarking: NSUZXYTT*LMX2330*LTMDD; CompType: Analog IC; Published: 4-Dec-2008; DatasheetVersion: Oct-2001; PackageVersion: revE, Mar-2003; PackageReference: MTC20; Publisher: Altium Limited; PackageDescription: Molded TSSOP, Jedec, 6.5 x 4.4 x 0.9mm Body, 20 Lead, 0.65mm Pitch; PinCount: 20; Code_JEDEC: MO-153-AC; ComponentLink1Description: LMX2330L Datasheet; ComponentLink1URL: http://www.national.com/ds/LM/LMX2330L.pdf; ComponentLink2Description: LMX2330L Web Page; ComponentLink2URL: http://www.national.com/pf/LM/LMX2330L.html; ComponentLink3Description: MTC20 package page; ComponentLink3URL: http://www.national.com/packaging/folders/mtc20.html
footprint MTC20_N (TSOP, 20-Leads, Body 6.5x4.4mm, Pitch 0.65mm, IPC Medium Density)
footprint MTC20_L (TSOP, 20-Leads, Body 6.5x4.4mm, Pitch 0.65mm, IPC High Density)
footprint MTC20_M (TSOP, 20-Leads, Body 6.5x4.4mm, Pitch 0.65mm, IPC Low Density)
pins: 1 VCC 1 (power), 2 VP 1 (power), 3 DO RF (out), 4 GND (power), 5 FIN RF (in), 6 ~{FIN RF} (in), 7 GND (power), 8 OSC IN (in), 9 GND (power), 10 FOLD (out), 11 CLK (in), 12 DATA (in), 13 LE (in), 14 GND (power), 15 ~{FIN IF} (in), 16 FIN IF (in), 17 GND (power), 18 DO IF (out), 19 VP 2 (power), 20 VCC 2 (power)

## LMX2331LSLBX
designator U?
2.0 GHz/510 MHz PLLatinum Low Power Dual Frequency Synthesizer for RF Personal Communications, 24-pin CSP; PartNumber: LMX2331LSLBX; Manufacturer: National Semiconductor; PackageTopMarking: NSUZXYTT*LMX2331*LSLBDD; PowerWise: N; CompType: Interface IC; Published: 4-Dec-2008; DatasheetVersion: Oct-2001; PackageVersion: revC, Oct-1998; PackageReference: SLB24A; Publisher: Altium Limited; PackageDescription: CSP, Plastic, Laminated, 3.5 x 4.5 x 1.0mm Body, 24 Lead, 0.5mm Pitch; RoHS: O; PinCount: 24; ComponentLink1Description: LMX2331L Datasheet; ComponentLink1URL: http://www.national.com/ds/LM/LMX2331L.pdf; ComponentLink2Description: LMX2331L Web Page; ComponentLink2URL: http://www.national.com/pf/LM/LMX2331L.html; ComponentLink3Description: SLB24A Package Page; ComponentLink3URL: http://www.national.com/packaging/folders/slb24a.html
footprint SLB24A (PQFN, 24-Leads (9x3 pads), Body 3.5x4.5mm, Pitch 0.5mm, NSC Recommended)
pins: 1 NC, 2 VP1 (power), 3 DORF (out), 4 GND (power), 5 FINRF (in), 6 ~{FIN}RF (in), 7 GND (power), 8 OSCIN (in), 9 NC, 10 GND (power), 11 FOLD (out), 12 CLOCK (in), 13 NC, 14 DATA (in), 15 LE (in), 16 GND (power), 17 ~{FIN}IF (in), 18 FINIF (in), 19 GND (power), 20 DOIF (out), 21 NC, 22 VP2 (power), 23 VCC2 (power), 24 VCC1 (power)

## LMX2331LSLDX
designator U?
2.0 GHz/510 MHz PLLatinum Low Power Dual Frequency Synthesizer for RF Personal Communications, 20-pin CSP; PartNumber: LMX2331LSLDX; Manufacturer: National Semiconductor; PackageTopMarking: NSXYTT*X2331L*SLDDD; PowerWise: N; CompType: Interface IC; Published: 4-Dec-2008; DatasheetVersion: Oct-2001; PackageVersion: revA, Jun-2001; PackageReference: SLD20A; Publisher: Altium Limited; PackageDescription: Thin CSP, Plastic, Laminated, 3.5 x 3.5 x 0.8mm Body, 20 Lead, .5mm Pitch; RoHS: O; PinCount: 20; Code_JEDEC: MO-208-CCEA-1; ComponentLink1Description: LMX2331L Datasheet; ComponentLink1URL: http://www.national.com/ds/LM/LMX2331L.pdf; ComponentLink2Description: LMX2331L Web Page; ComponentLink2URL: http://www.national.com/pf/LM/LMX2331L.html; ComponentLink3Description: SLD20A Package Page; ComponentLink3URL: http://www.national.com/packaging/folders/sld20a.html
footprint SLD20A (PQFN, 20-Leads, Body 3.5x3.5mm, Pitch 0.5mm, NSC Recommended)
pins: 1 VP1 (power), 2 DORF (out), 3 GND (power), 4 FINRF (in), 5 ~{FIN}RF (in), 6 GND (power), 7 OSCIN (in), 8 GND (power), 9 FOLD (out), 10 CLOCK (in), 11 DATA (in), 12 LE (in), 13 GND (power), 14 ~{FIN}IF (in), 15 FINIF (in), 16 GND (power), 17 DOIF (out), 18 VP2 (power), 19 VCC2 (power), 20 VCC1 (power)

## LMX2331LTM
designator U?
2.0 GHz/510 MHz PLLatinum Low Power Dual Frequency Synthesizer for RF Personal Communications, 20-pin TSSOP; PartNumber: LMX2331LTM; Manufacturer: National Semiconductor; PackageTopMarking: NSUZXYTT*LMX2331*LTMDD; CompType: Interface IC; Published: 4-Dec-2008; DatasheetVersion: Oct-2001; PackageVersion: revE, Mar-2003; PackageReference: MTC20; Publisher: Altium Limited; PackageDescription: Molded TSSOP, Jedec, 6.5 x 4.4 x 0.9mm Body, 20 Lead, 0.65mm Pitch; RoHS: Y; PinCount: 20; Code_JEDEC: MO-153-AC; ComponentLink1Description: LMX2331L Datasheet; ComponentLink1URL: http://www.national.com/ds/LM/LMX2331L.pdf; ComponentLink2Description: LMX2331L Web Page; ComponentLink2URL: http://www.national.com/pf/LM/LMX2331L.html; ComponentLink3Description: MTC20 Package Page; ComponentLink3URL: http://www.national.com/packaging/folders/mtc20.html
footprint MTC20_N (TSOP, 20-Leads, Body 6.5x4.4mm, Pitch 0.65mm, IPC Medium Density)
footprint MTC20_L (TSOP, 20-Leads, Body 6.5x4.4mm, Pitch 0.65mm, IPC High Density)
footprint MTC20_M (TSOP, 20-Leads, Body 6.5x4.4mm, Pitch 0.65mm, IPC Low Density)
pins: 1 VCC1 (power), 2 VP1 (power), 3 DORF (out), 4 GND (power), 5 FINRF (in), 6 ~{FIN}RF (in), 7 GND (power), 8 OSCIN (in), 9 GND (power), 10 FOLD (out), 11 CLOCK (in), 12 DATA (in), 13 LE (in), 14 GND (power), 15 ~{FIN}IF (in), 16 FINIF (in), 17 GND (power), 18 DOIF (out), 19 VP2 (power), 20 VCC2 (power)

## LMX2331LTMX
designator U?
2.0 GHz/510 MHz PLLatinum Low Power Dual Frequency Synthesizer for RF Personal Communications, 20-pin TSSOP; PartNumber: LMX2331LTMX; Manufacturer: National Semiconductor; PackageTopMarking: NSUZXYTT*LMX2331*LTMDD; CompType: Analog IC; Published: 4-Dec-2008; DatasheetVersion: Oct-2001; PackageVersion: revE, Mar-2003; PackageReference: MTC20; Publisher: Altium Limited; PackageDescription: Molded TSSOP, Jedec, 6.5 x 4.4 x 0.9mm Body, 20 Lead, 0.65mm Pitch; PinCount: 20; Code_JEDEC: MO-153-AC; ComponentLink1Description: LMX2331L Datasheet; ComponentLink1URL: http://www.national.com/ds/LM/LMX2331L.pdf; ComponentLink2Description: LMX2331L Web Page; ComponentLink2URL: http://www.national.com/pf/LM/LMX2331L.html; ComponentLink3Description: MTC20 package page; ComponentLink3URL: http://www.national.com/packaging/folders/mtc20.html
footprint MTC20_N (TSOP, 20-Leads, Body 6.5x4.4mm, Pitch 0.65mm, IPC Medium Density)
footprint MTC20_L (TSOP, 20-Leads, Body 6.5x4.4mm, Pitch 0.65mm, IPC High Density)
footprint MTC20_M (TSOP, 20-Leads, Body 6.5x4.4mm, Pitch 0.65mm, IPC Low Density)
pins: 1 VCC 1 (power), 2 VP 1 (power), 3 DO RF (out), 4 GND (power), 5 FIN RF (in), 6 ~{FIN RF} (in), 7 GND (power), 8 OSC IN (in), 9 GND (power), 10 FOLD (out), 11 CLK (in), 12 DATA (in), 13 LE (in), 14 GND (power), 15 ~{FIN IF} (in), 16 FIN IF (in), 17 GND (power), 18 DO IF (out), 19 VP 2 (power), 20 VCC 2 (power)

## LMX2332LSLBX
designator U?
1.2 GHz/510 MHz PLLatinum Low Power Dual Frequency Synthesizer for RF Personal Communications, 24-pin CSP; PartNumber: LMX2332LSLBX; Manufacturer: National Semiconductor; PackageTopMarking: NSUZXYTT*LMX2332*LSLBDD; CompType: Interface IC; Published: 4-Dec-2008; DatasheetVersion: Oct-2001; PackageVersion: revC, Oct-1998; PackageReference: SLB24A; Publisher: Altium Limited; PackageDescription: CSP, Plastic, Laminated, 3.5 x 4.5 x 1.0mm Body, 24 Lead, 0.5mm Pitch; RoHS: O; PinCount: 24; ComponentLink1Description: LMX2332L Datasheet; ComponentLink1URL: http://www.national.com/ds/LM/LMX2332L.pdf; ComponentLink2Description: LMX2332L Web Page; ComponentLink2URL: http://www.national.com/pf/LM/LMX2332L.html; ComponentLink3Description: SLB24A Package Page; ComponentLink3URL: http://www.national.com/packaging/folders/slb24a.html
footprint SLB24A (PQFN, 24-Leads (9x3 pads), Body 3.5x4.5mm, Pitch 0.5mm, NSC Recommended)
pins: 1 NC, 2 VP1 (power), 3 DORF (out), 4 GND (power), 5 FINRF (in), 6 ~{FIN}RF (in), 7 GND (power), 8 OSCIN (in), 9 NC, 10 GND (power), 11 FOLD (out), 12 CLOCK (in), 13 NC, 14 DATA (in), 15 LE (in), 16 GND (power), 17 ~{FIN}IF (in), 18 FINIF (in), 19 GND (power), 20 DOIF (out), 21 NC, 22 VP2 (power), 23 VCC2 (power), 24 VCC1 (power)

## LMX2332LSLDX
designator U?
1.2 GHz/510 MHz PLLatinum Low Power Dual Frequency Synthesizer for RF Personal Communications, 20-pin CSP; PartNumber: LMX2332LSLDX; Manufacturer: National Semiconductor; PackageTopMarking: NSXYTT*X2332L*SLDDD; CompType: Interface IC; Published: 4-Dec-2008; DatasheetVersion: Oct-2001; PackageVersion: revA, Jun-2001; PackageReference: SLD20A; Publisher: Altium Limited; PackageDescription: Thin CSP, Plastic, Laminated, 3.5 x 3.5 x 0.8mm Body, 20 Lead, .5mm Pitch; RoHS: O; PinCount: 20; Code_JEDEC: MO-208-CCEA-1; ComponentLink1Description: LMX2332L Datasheet; ComponentLink1URL: http://www.national.com/ds/LM/LMX2332L.pdf; ComponentLink2Description: LMX2332L Web Page; ComponentLink2URL: http://www.national.com/pf/LM/LMX2332L.html; ComponentLink3Description: SLD20A Package Page; ComponentLink3URL: http://www.national.com/packaging/folders/sld20a.html
footprint SLD20A (PQFN, 20-Leads, Body 3.5x3.5mm, Pitch 0.5mm, NSC Recommended)
pins: 1 VP1 (power), 2 DORF (out), 3 GND (power), 4 FINRF (in), 5 ~{FIN}RF (in), 6 GND (power), 7 OSCIN (in), 8 GND (power), 9 FOLD (out), 10 CLOCK (in), 11 DATA (in), 12 LE (in), 13 GND (power), 14 ~{FIN}IF (in), 15 FINIF (in), 16 GND (power), 17 DOIF (out), 18 VP2 (power), 19 VCC2 (power), 20 VCC1 (power)

## LMX2332LTM
designator U?
1.2 GHz/510 MHz PLLatinum Low Power Dual Frequency Synthesizer for RF Personal Communications, 20-pin TSSOP; PartNumber: LMX2332LTM; Manufacturer: National Semiconductor; PackageTopMarking: NSUZXYTT*LMX2332*LTMDD; PowerWise: N; CompType: Interface IC; Published: 4-Dec-2008; DatasheetVersion: Oct-2001; PackageVersion: revE, Mar-2003; PackageReference: MTC20; Publisher: Altium Limited; PackageDescription: Molded TSSOP, Jedec, 6.5 x 4.4 x 0.9mm Body, 20 Lead, 0.65mm Pitch; RoHS: O; PinCount: 20; Code_JEDEC: MO-153-AC; ComponentLink1Description: LMX2332L Datasheet; ComponentLink1URL: http://www.national.com/ds/LM/LMX2332L.pdf; ComponentLink2Description: LMX2332L Web Page; ComponentLink2URL: http://www.national.com/pf/LM/LMX2332L.html; ComponentLink3Description: MTC20 Package Page; ComponentLink3URL: http://www.national.com/packaging/folders/mtc20.html
footprint MTC20_N (TSOP, 20-Leads, Body 6.5x4.4mm, Pitch 0.65mm, IPC Medium Density)
footprint MTC20_L (TSOP, 20-Leads, Body 6.5x4.4mm, Pitch 0.65mm, IPC High Density)
footprint MTC20_M (TSOP, 20-Leads, Body 6.5x4.4mm, Pitch 0.65mm, IPC Low Density)
pins: 1 VCC1 (power), 2 VP1 (power), 3 DORF (out), 4 GND (power), 5 FINRF (in), 6 ~{FIN}RF (in), 7 GND (power), 8 OSCIN (in), 9 GND (power), 10 FOLD (out), 11 CLOCK (in), 12 DATA (in), 13 LE (in), 14 GND (power), 15 ~{FIN}IF (in), 16 FINIF (in), 17 GND (power), 18 DOIF (out), 19 VP2 (power), 20 VCC2 (power)

## LMX2332LTMX
designator U?
1.2 GHz/510 MHz PLLatinum Low Power Dual Frequency Synthesizer for RF Personal Communications, 20-pin TSSOP; PartNumber: LMX2332LTMX; Manufacturer: National Semiconductor; PackageTopMarking: NSUZXYTT*LMX2332*LTMDD; CompType: Analog IC; Published: 4-Dec-2008; DatasheetVersion: Oct-2001; PackageVersion: revE, Mar-2003; PackageReference: MTC20; Publisher: Altium Limited; PackageDescription: Molded TSSOP, Jedec, 6.5 x 4.4 x 0.9mm Body, 20 Lead, 0.65mm Pitch; PinCount: 20; Code_JEDEC: MO-153-AC; ComponentLink1Description: LMX2332L Datasheet; ComponentLink1URL: http://www.national.com/ds/LM/LMX2332L.pdf; ComponentLink2Description: LMX2332L Web Page; ComponentLink2URL: http://www.national.com/pf/LM/LMX2332L.html; ComponentLink3Description: MTC20 package page; ComponentLink3URL: http://www.national.com/packaging/folders/mtc20.html
footprint MTC20_N (TSOP, 20-Leads, Body 6.5x4.4mm, Pitch 0.65mm, IPC Medium Density)
footprint MTC20_L (TSOP, 20-Leads, Body 6.5x4.4mm, Pitch 0.65mm, IPC High Density)
footprint MTC20_M (TSOP, 20-Leads, Body 6.5x4.4mm, Pitch 0.65mm, IPC Low Density)
pins: 1 VCC 1 (power), 2 VP 1 (power), 3 DO RF (out), 4 GND (power), 5 FIN RF (in), 6 ~{FIN RF} (in), 7 GND (power), 8 OSC IN (in), 9 GND (power), 10 FOLD (out), 11 CLK (in), 12 DATA (in), 13 LE (in), 14 GND (power), 15 ~{FIN IF} (in), 16 FIN IF (in), 17 GND (power), 18 DO IF (out), 19 VP 2 (power), 20 VCC 2 (power)

## LMX2335LSLBX
designator U?
PLLatinum Low Power Dual Frequency Synthesizer for RF Personal Communications, 16-pin CSP; PartNumber: LMX2335LSLBX; Manufacturer: National Semiconductor; PackageTopMarking: NSXYTT*X2335L*SLBDD; PowerWise: N; CompType: Interface IC; Published: 4-Dec-2008; DatasheetVersion: Feb-2001; PackageVersion: revB, Sep-1998; PackageReference: SLB16A; Publisher: Altium Limited; PackageDescription: CSP, Plastic, Laminated, 3.5 x 3.5 x 1.0mm Body, 16 Lead, 0.5mm Pitch; RoHS: O; PinCount: 16; Code_JEDEC: MO-208-CCE; ComponentLink1Description: LMX2335L Datasheet; ComponentLink1URL: http://www.national.com/ds/LM/LMX2335L.pdf; ComponentLink2Description: LMX2335L Web Page; ComponentLink2URL: http://www.national.com/pf/LM/LMX2335L.html; ComponentLink3Description: SLB16A Package Page; ComponentLink3URL: http://www.national.com/packaging/folders/slb16a.html
footprint SLB16A (PQFN, 16-Leads, Body 3.5x3.5mm, Pitch 0.5mm, NSC Recommended)
pins: 1 VP1 (power), 2 DO1 (out), 3 GND (power), 4 FIN1 (in), 5 OSCIN (in), 6 OSCOUT (out), 7 FOLD (out), 8 CLOCK (in), 9 DATA (in), 10 LE (in), 11 FIN2 (in), 12 GND (power), 13 DO2 (out), 14 VP2 (power), 15 VCC2 (power), 16 VCC1 (power)

## LMX2335LTM
designator U?
PLLatinum Low Power Dual Frequency Synthesizer for RF Personal Communications, 16-pin TSSOP; PartNumber: LMX2335LTM; Manufacturer: National Semiconductor; PackageTopMarking: NSUZXYTT*LMX2335*LTMDD; PowerWise: N; CompType: Interface IC; Published: 4-Dec-2008; DatasheetVersion: Feb-2001; PackageVersion: revD, Jun-2003; PackageReference: MTC16; Publisher: Altium Limited; PackageDescription: Molded TSSOP, Jedec, 5 x 4.4 x 0.9mm Body, 16 Lead, 0.65mm Pitch; RoHS: Y; PinCount: 16; Code_JEDEC: MO-153-AB; ComponentLink1Description: LMX2335L Datasheet; ComponentLink1URL: http://www.national.com/ds/LM/LMX2335L.pdf; ComponentLink2Description: LMX2335L Web Page; ComponentLink2URL: http://www.national.com/pf/LM/LMX2335L.html; ComponentLink3Description: MTC16 Package Page; ComponentLink3URL: http://www.national.com/packaging/folders/mtc16.html
footprint MTC16_N (TSOP, 16-Leads, Body 5x4.4mm, Pitch 0.65mm, IPC Medium Density)
footprint MTC16_L (TSOP, 16-Leads, Body 5x4.4mm, Pitch 0.65mm, IPC High Density)
footprint MTC16_M (TSOP, 16-Leads, Body 5x4.4mm, Pitch 0.65mm, IPC Low Density)
pins: 1 VCC1 (power), 2 VP1 (power), 3 DO1 (out), 4 GND (power), 5 FIN1 (in), 6 OSCIN (in), 7 OSCOUT (out), 8 FOLD (out), 9 CLOCK (in), 10 DATA (in), 11 LE (in), 12 FIN2 (in), 13 GND (power), 14 DO2 (out), 15 VP2 (power), 16 VCC2 (power)

## LMX2335LTMX
designator U?
1.1 GHz/1.1 GHz PLLatinum Low Power Dual Frequency Synthesizer for RF Personal Communications, 16-pin TSSOP; PartNumber: LMX2335LTMX; Manufacturer: National Semiconductor; PackageTopMarking: NSUZXYTT*LMX2335*LTMDD; CompType: Analog IC; Published: 4-Dec-2008; DatasheetVersion: Feb-2001; PackageVersion: revD, Jun-2003; PackageReference: MTC16; Publisher: Altium Limited; PackageDescription: Molded TSSOP, Jedec, 5 x 4.4 x 0.9mm Body, 16 Lead, 0.65mm Pitch; PinCount: 16; Code_JEDEC: MO-153-AB; ComponentLink1Description: LMX2335L Datasheet; ComponentLink1URL: http://www.national.com/ds/LM/LMX2335L.pdf; ComponentLink2Description: LMX2335L Web Page; ComponentLink2URL: http://www.national.com/pf/LM/LMX2335L.html; ComponentLink3Description: MTC16 package page; ComponentLink3URL: http://www.national.com/packaging/folders/mtc16.html
footprint MTC16_N (TSOP, 16-Leads, Body 5x4.4mm, Pitch 0.65mm, IPC Medium Density)
footprint MTC16_L (TSOP, 16-Leads, Body 5x4.4mm, Pitch 0.65mm, IPC High Density)
footprint MTC16_M (TSOP, 16-Leads, Body 5x4.4mm, Pitch 0.65mm, IPC Low Density)
pins: 1 VCC 1 (power), 2 VP 1 (power), 3 DO 1 (out), 4 GND (power), 5 FIN 1 (in), 6 OSC IN (in), 7 OSC OUT (out), 8 FOLD (out), 9 CLK (in), 10 DATA (in), 11 LE (in), 12 FIN 2 (in), 13 GND (power), 14 DO 2 (out), 15 VP 2 (power), 16 VCC 2 (power)

## LMX2336LSLBX
designator U?
PLLatinum Low Power Dual Frequency Synthesizer for RF Personal Communications, 24-pin CSP; PartNumber: LMX2336LSLBX; Manufacturer: National Semiconductor; PackageTopMarking: NSUZXYTT*LMX2336*LSLBDD; CompType: Interface IC; Published: 4-Dec-2008; DatasheetVersion: Feb-2001; PackageVersion: revC, Oct-1998; PackageReference: SLB24A; Publisher: Altium Limited; PackageDescription: CSP, Plastic, Laminated, 3.5 x 4.5 x 1.0mm Body, 24 Lead, 0.5mm Pitch; Supplier 1: Digi-Key; Supplier Part Number 1: LMX2336LSLBX-ND; RoHS: O; PinCount: 24; ComponentLink1Description: LMX2336L Datasheet; ComponentLink1URL: http://www.national.com/ds/LM/LMX2336L.pdf; ComponentLink2Description: LMX2336L Web Page; ComponentLink2URL: http://www.national.com/pf/LM/LMX2336L.html; ComponentLink3Description: SLB24A Package Page; ComponentLink3URL: http://www.national.com/packaging/folders/slb24a.html
footprint SLB24A (PQFN, 24-Leads (9x3 pads), Body 3.5x4.5mm, Pitch 0.5mm, NSC Recommended)
pins: 1 NC, 2 VP1 (power), 3 DO1 (out), 4 GND (power), 5 FIN1 (in), 6 ~{FIN}1 (in), 7 GND (power), 8 OSCIN (in), 9 NC, 10 OSCOUT (out), 11 FOLD (out), 12 CLOCK (in), 13 NC, 14 DATA (in), 15 LE (in), 16 GND (power), 17 ~{FIN}2 (in), 18 FIN2 (in), 19 GND (power), 20 DO2 (out), 21 NC, 22 VP2 (power), 23 VCC2 (power), 24 VCC1 (power)

## LMX2336LTM
designator U?
PLLatinum Low Power Dual Frequency Synthesizer for RF Personal Communications, 20-pin TSSOP; PartNumber: LMX2336LTM; Manufacturer: National Semiconductor; PackageTopMarking: NSUZXYTT*LMX2336*LTMDD; CompType: Interface IC; Published: 4-Dec-2008; DatasheetVersion: Feb-2001; PackageVersion: revE, Mar-2003; PackageReference: MTC20; Publisher: Altium Limited; PackageDescription: Molded TSSOP, Jedec, 6.5 x 4.4 x 0.9mm Body, 20 Lead, 0.65mm Pitch; RoHS: Y; PinCount: 20; Code_JEDEC: MO-153-AC; ComponentLink1Description: LMX2336L Datasheet; ComponentLink1URL: http://www.national.com/ds/LM/LMX2336L.pdf; ComponentLink2Description: LMX2336L Web Page; ComponentLink2URL: http://www.national.com/pf/LM/LMX2336L.html; ComponentLink3Description: MTC20 Package Page; ComponentLink3URL: http://www.national.com/packaging/folders/mtc20.html
footprint MTC20_N (TSOP, 20-Leads, Body 6.5x4.4mm, Pitch 0.65mm, IPC Medium Density)
footprint MTC20_L (TSOP, 20-Leads, Body 6.5x4.4mm, Pitch 0.65mm, IPC High Density)
footprint MTC20_M (TSOP, 20-Leads, Body 6.5x4.4mm, Pitch 0.65mm, IPC Low Density)
pins: 1 VCC1 (power), 2 VP1 (power), 3 DO1 (out), 4 GND (power), 5 FIN1 (in), 6 ~{FIN}1 (in), 7 GND (power), 8 OSCIN (in), 9 OSCOUT (out), 10 FOLD (out), 11 CLOCK (in), 12 DATA (in), 13 LE (in), 14 GND (power), 15 ~{FIN}2 (in), 16 FIN2 (in), 17 GND (power), 18 DO2 (out), 19 VP2 (power), 20 VCC2 (power)

## LMX2336LTMX
designator U?
2.0 GHz/1.1 GHz PLLatinum Low Power Dual Frequency Synthesizer for RF Personal Communications, 20-pin TSSOP; PartNumber: LMX2336LTMX; Manufacturer: National Semiconductor; PackageTopMarking: NSUZXYTT*LMX2336*LTMDD; CompType: Analog IC; Published: 4-Dec-2008; DatasheetVersion: Feb-2001; PackageVersion: revE, Mar-2003; PackageReference: MTC20; Publisher: Altium Limited; PackageDescription: Molded TSSOP, Jedec, 6.5 x 4.4 x 0.9mm Body, 20 Lead, 0.65mm Pitch; PinCount: 20; Code_JEDEC: MO-153-AC; ComponentLink1Description: LMX2336L Datasheet; ComponentLink1URL: http://www.national.com/ds/LM/LMX2336L.pdf; ComponentLink2Description: LMX2336L Web Page; ComponentLink2URL: http://www.national.com/pf/LM/LMX2336L.html; ComponentLink3Description: MTC20 package page; ComponentLink3URL: http://www.national.com/packaging/folders/mtc20.html
footprint MTC20_N (TSOP, 20-Leads, Body 6.5x4.4mm, Pitch 0.65mm, IPC Medium Density)
footprint MTC20_L (TSOP, 20-Leads, Body 6.5x4.4mm, Pitch 0.65mm, IPC High Density)
footprint MTC20_M (TSOP, 20-Leads, Body 6.5x4.4mm, Pitch 0.65mm, IPC Low Density)
pins: 1 VCC 1 (power), 2 VP 1 (power), 3 DO 1 (out), 4 GND (power), 5 FIN 1 (in), 6 ~{FIN 1} (in), 7 GND (power), 8 OSC IN (in), 9 OSC OUT (out), 10 FOLD (out), 11 CLK (in), 12 DATA (in), 13 LE (in), 14 GND (power), 15 ~{FIN 2} (in), 16 FIN 2 (in), 17 GND (power), 18 DO 2 (out), 19 VP 2 (power), 20 VCC 2 (power)

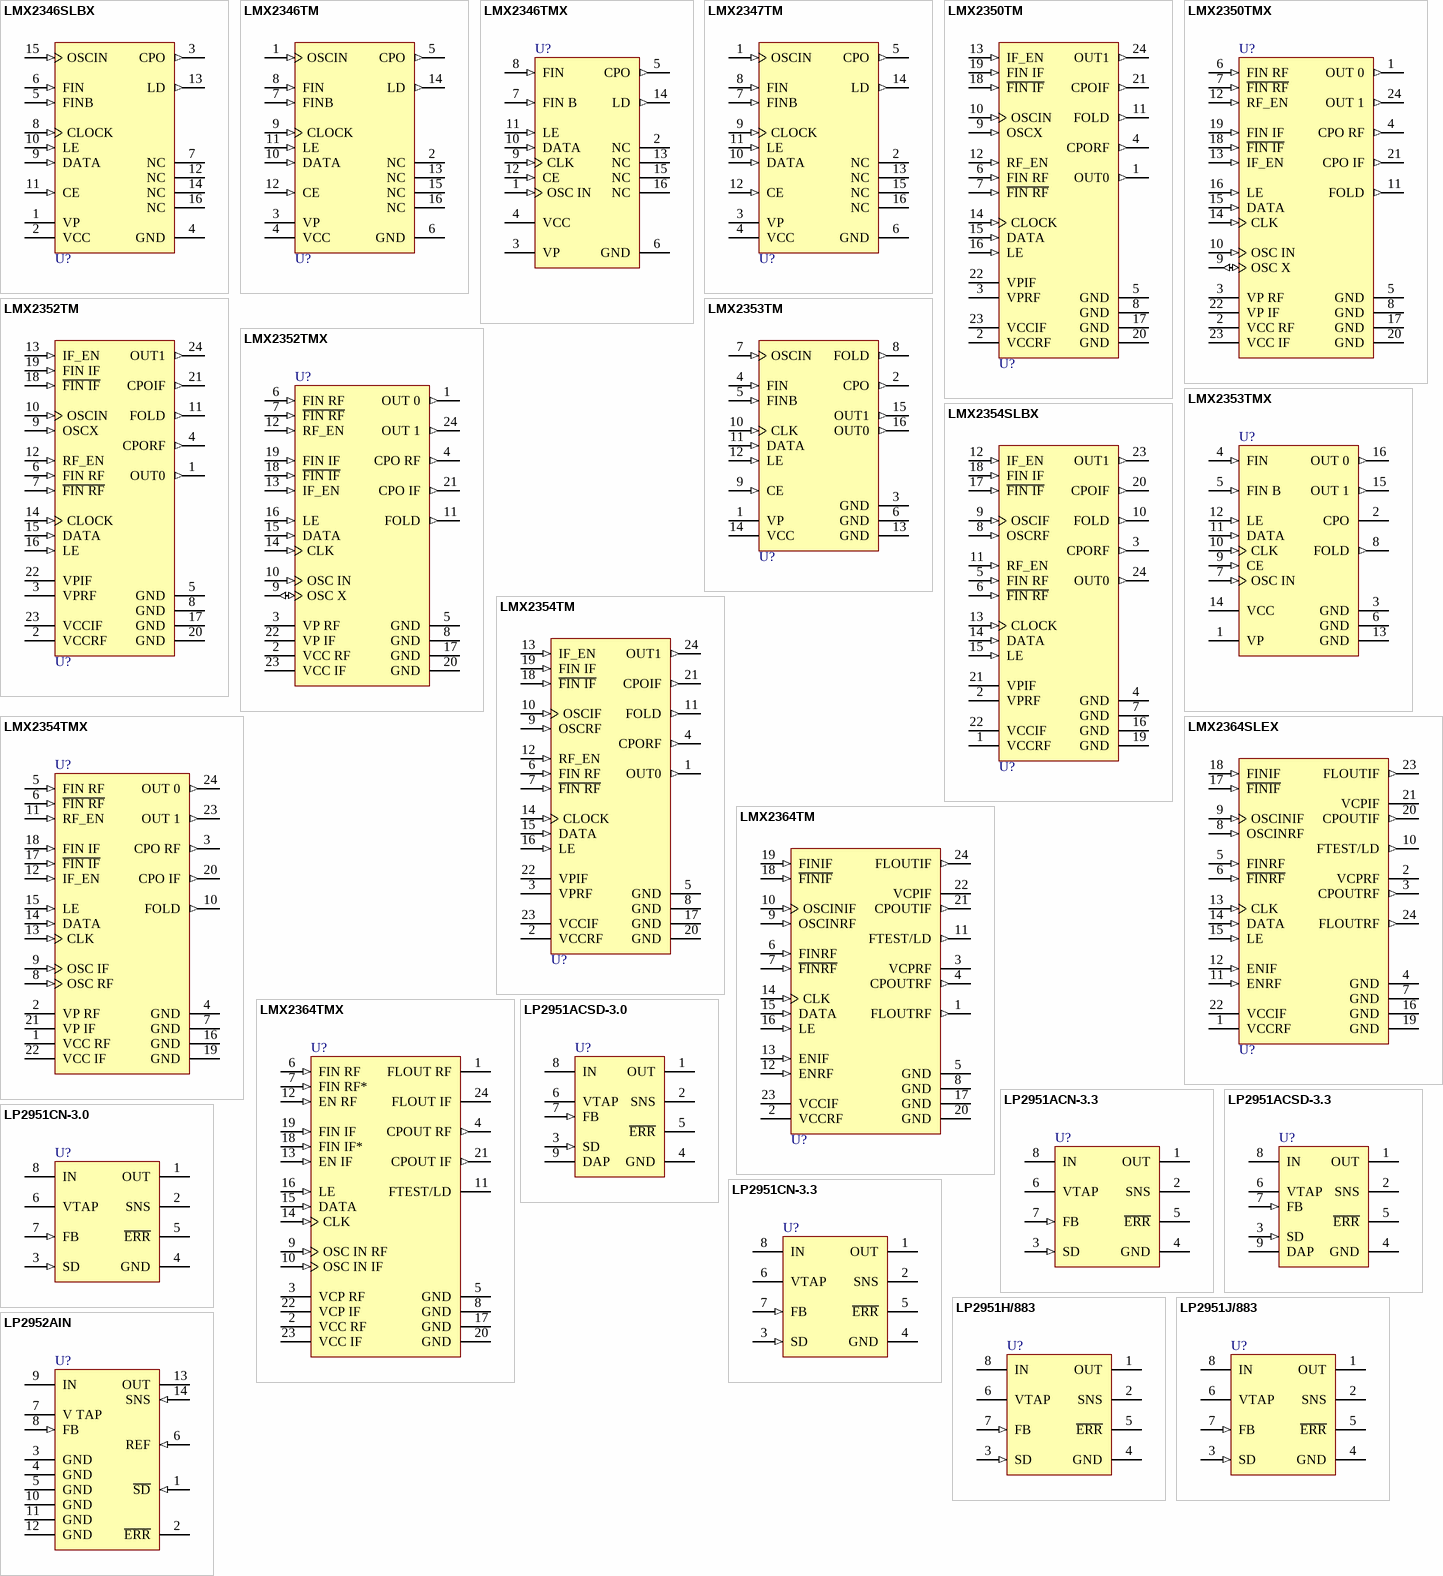
[diagram p19: symbols LMX2346SLBX to LP2952AIN]

## LMX2346SLBX
designator U?
2.0 GHz PLLatinum Frequency Synthesizer for RF Personal Communications, 16-pin CSP; PartNumber: LMX2346SLBX; Manufacturer: National Semiconductor; PackageTopMarking: NSXYTT*X2346*SLBDD; CompType: Interface IC; Published: 4-Dec-2008; DatasheetVersion: Jun-2004; PackageVersion: revB, Sep-1998; PackageReference: SLB16A; Publisher: Altium Limited; PackageDescription: CSP, Plastic, Laminated, 3.5 x 3.5 x 1.0mm Body, 16 Lead, 0.5mm Pitch; RoHS: O; PinCount: 16; Code_JEDEC: MO-208-CCE; ComponentLink1Description: LMX2346 Datasheet; ComponentLink1URL: http://www.national.com/ds/LM/LMX2346.pdf; ComponentLink2Description: LMX2346 Web Page; ComponentLink2URL: http://www.national.com/pf/LM/LMX2346.html; ComponentLink3Description: SLB16A Package Page; ComponentLink3URL: http://www.national.com/packaging/folders/slb16a.html
footprint SLB16A (PQFN, 16-Leads, Body 3.5x3.5mm, Pitch 0.5mm, NSC Recommended)
pins: 1 VP (power), 2 VCC (power), 3 CPO (out), 4 GND (power), 5 FINB (in), 6 FIN (in), 7 NC, 8 CLOCK (in), 9 DATA (in), 10 LE (in), 11 CE (in), 12 NC, 13 LD (out), 14 NC, 15 OSCIN (in), 16 NC

## LMX2346TM
designator U?
2.0 GHz PLLatinum Frequency Synthesizer for RF Personal Communications, 16-pin TSSOP; PartNumber: LMX2346TM; Manufacturer: National Semiconductor; PackageTopMarking: NSUZXYTT*LMX2346*TMDD; PowerWise: N; CompType: Interface IC; Published: 4-Dec-2008; DatasheetVersion: Jun-2004; PackageVersion: revD, Jun-2003; PackageReference: MTC16; Publisher: Altium Limited; PackageDescription: Molded TSSOP, Jedec, 5 x 4.4 x 0.9mm Body, 16 Lead, 0.65mm Pitch; RoHS: Y; PinCount: 16; Code_JEDEC: MO-153-AB; ComponentLink1Description: LMX2346 Datasheet; ComponentLink1URL: http://www.national.com/ds/LM/LMX2346.pdf; ComponentLink2Description: LMX2346 Web Page; ComponentLink2URL: http://www.national.com/pf/LM/LMX2346.html; ComponentLink3Description: MTC16 Package Page; ComponentLink3URL: http://www.national.com/packaging/folders/mtc16.html
footprint MTC16_N (TSOP, 16-Leads, Body 5x4.4mm, Pitch 0.65mm, IPC Medium Density)
footprint MTC16_L (TSOP, 16-Leads, Body 5x4.4mm, Pitch 0.65mm, IPC High Density)
footprint MTC16_M (TSOP, 16-Leads, Body 5x4.4mm, Pitch 0.65mm, IPC Low Density)
pins: 1 OSCIN (in), 2 NC, 3 VP (power), 4 VCC (power), 5 CPO (out), 6 GND (power), 7 FINB (in), 8 FIN (in), 9 CLOCK (in), 10 DATA (in), 11 LE (in), 12 CE (in), 13 NC, 14 LD (out), 15 NC, 16 NC